# EAGLE library part FH36-51S-0.3SHW(50) (library con-hirose-fh36-series)
HIROSE FH36 SERIES CATALOG <https://www.hirose.com/en/product/document?clcode=CL0580-1620-0-50&productname=FH36W-39S-0.3SHW(50)&series=FH36&documenttype=Catalog&lang=en&documentid=D49359_en> HIROSE FH36 PRODUCT PAGE <https://www.hirose.com/product/p/CL0580-1620-0-50#documentSection>
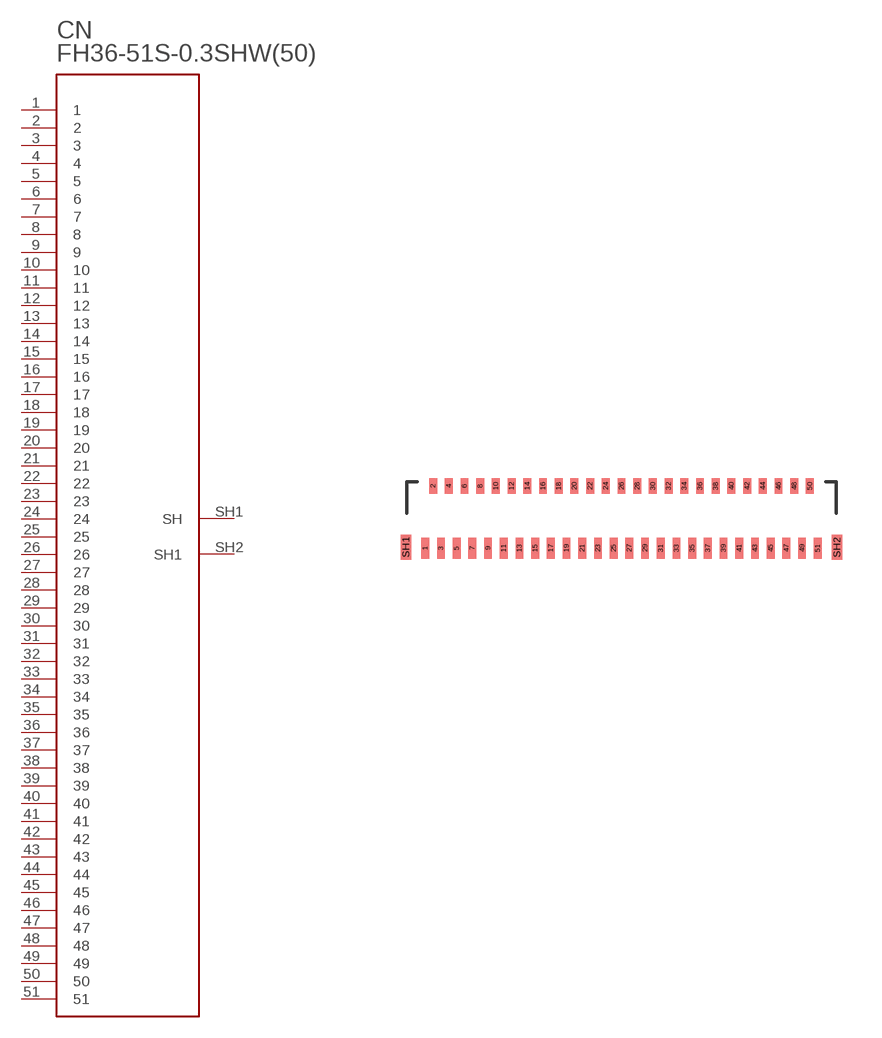
[diagram p8: symbol with the pads of FH36(W)-51; footprint FH36(W)-51]

Designator prefix CN

## FH36-51S-0.3SHW(50)  [FH36(W)-51]
1  1
2  2
3  3
4  4
5  5
6  6
7  7
8  8
9  9
10  10
11  11
12  12
13  13
14  14
15  15
16  16
17  17
18  18
19  19
20  20
21  21
22  22
23  23
24  24
25  25
26  26
27  27
28  28
29  29
30  30
31  31
32  32
33  33
34  34
35  35
36  36
37  37
38  38
39  39
40  40
41  41
42  42
43  43
44  44
45  45
46  46
47  47
48  48
49  49
50  50
51  51
SH1  SH
SH2  SH1

## Footprint FH36(W)-51 (pad centres in mm)
smd 0.3 x 0.8: 1 -7.5,-1.235; 3 -6.9,-1.235; 5 -6.3,-1.235; 7 -5.7,-1.235; 9 -5.1,-1.235; 11 -4.5,-1.235; 13 -3.9,-1.235; 15 -3.3,-1.235; 17 -2.7,-1.235; 19 -2.1,-1.235; 21 -1.5,-1.235; 23 -0.9,-1.235; 25 -0.3,-1.235; 27 0.3,-1.235; 29 0.9,-1.235; 31 1.5,-1.235; 33 2.1,-1.235; 35 2.7,-1.235; 37 3.3,-1.235; 39 3.9,-1.235; 41 4.5,-1.235; 43 5.1,-1.235; 45 5.7,-1.235; 47 6.3,-1.235; 49 6.9,-1.235; 51 7.5,-1.235
smd 0.3 x 0.6: 2 -7.2,1.135; 4 -6.6,1.135; 6 -6,1.135; 8 -5.4,1.135; 10 -4.8,1.135; 12 -4.2,1.135; 14 -3.6,1.135; 16 -3,1.135; 18 -2.4,1.135; 20 -1.8,1.135; 22 -1.2,1.135; 24 -0.6,1.135; 26 0,1.135; 28 0.6,1.135; 30 1.2,1.135; 32 1.8,1.135; 34 2.4,1.135; 36 3,1.135; 38 3.6,1.135; 40 4.2,1.135; 42 4.8,1.135; 44 5.4,1.135; 46 6,1.135; 48 6.6,1.135; 50 7.2,1.135
smd 0.4 x 0.95: SH1 -8.235,-1.2; SH2 8.235,-1.2